# Altium footprint library ST-SOT23-6.PcbLib: 1 footprints
Each footprint in its own frame and in the unit in brackets; x right, y up, seen from the top. Pads: shape width x height; smd on the part's side, far side on the other; paste and mask are expansions set on the pad; w line width, h text height; cw(c..) or ccw(c..) is an arc to the next point about the centre after c.
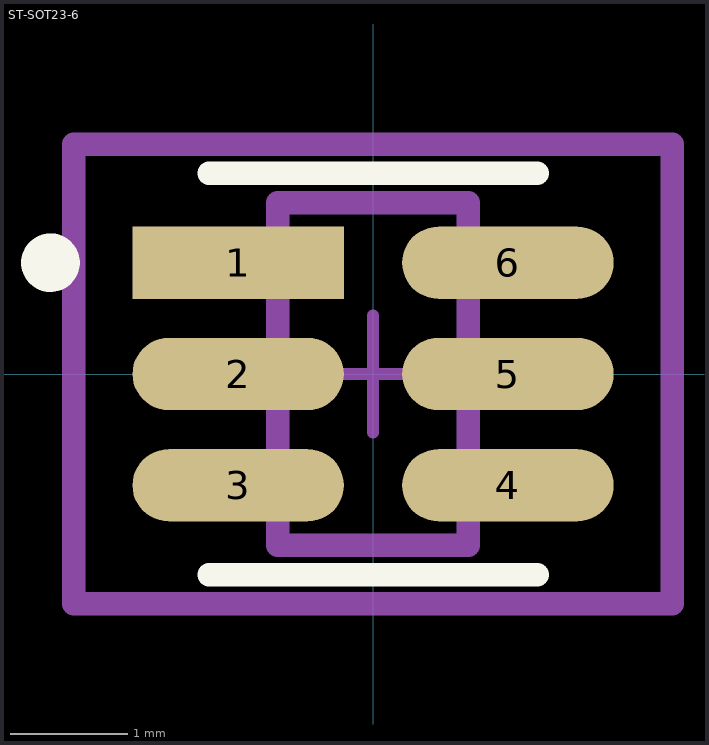
[diagram p0: the footprint, top view; thin cyan lines are the x and y axes]

## ST-SOT23-6 [mm]
pads (6):
  rect 1.805x0.616 smd paste+0 mask+0: 1(-1.151,0.95)
  rrect100% 1.805x0.616 smd paste+0 mask+0: 2(-1.151,0) 3(-1.151,-0.95) 4(1.151,-0.95) 5(1.151,0) 6(1.151,0.95)
Top Overlay:
  circle w0.25: c-2.753,0.95 r0.125
  lines w0.2: -1.4,-1.713 1.4,-1.713 ; -1.4,1.713 1.4,1.713
Top Assembly:
  lines w0.2: -2.553,-1.963 -2.553,1.963 2.553,1.963 2.553,-1.963 -2.553,-1.963
  text ".Designator" at 0,0.188 h1
Top 3D Body:
  lines w0.2: -0.813,-1.462 -0.813,1.462 0.813,1.462 0.813,-1.462 -0.813,-1.462
Top Courtyard:
  lines w0.2: -2.553,-1.963 -2.553,1.963 2.553,1.963 2.553,-1.963 -2.553,-1.963
Top Component Center:
  lines w0.1: -0.5,0 0.5,0 ; 0,-0.5 0,0.5
3D body "Diode_STMicroelectronics_ESDA6V1BC6_eec.STEP": height 0.25, standoff 0, extent -2.553,-1.963 2.553,1.963